# Altium footprint library MILL-MAX_897-43-005-00-100001.PcbLib: 1 footprints
Each footprint in its own frame and in the unit in brackets; x right, y up, seen from the top. Pads: shape width x height; smd on the part's side, far side on the other; paste and mask are expansions set on the pad; w line width, h text height; cw(c..) or ccw(c..) is an arc to the next point about the centre after c.
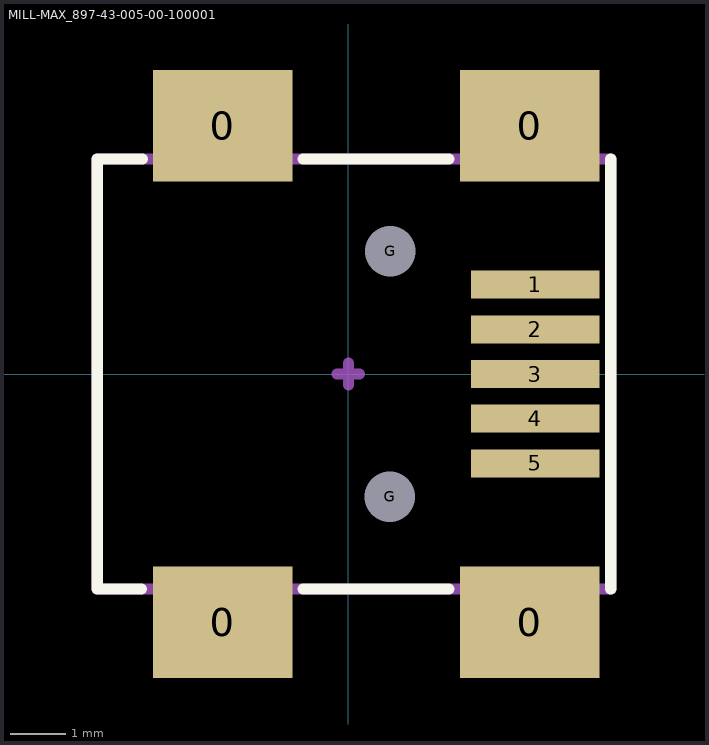
[diagram p0: the footprint, top view; thin cyan lines are the x and y axes]

## MILL-MAX_897-43-005-00-100001 [mm] "USB-MINI-B  SMD Connector"
height 3.95
pads (11):
  rect 2.5x2 smd: 0(-2.25,-4.45) 0(-2.25,4.45) 0(3.25,-4.45) 0(3.25,4.45)
  rect 2.3x0.5 smd: 1(3.35,1.6) 2(3.35,0.8) 3(3.35,0) 4(3.35,-0.8) 5(3.35,-1.6)
  round 0.35 hole 0.9 unplated: G(0.74,-2.2) G(0.75,2.2)
Top Overlay:
  lines w0.2: -3.708,-3.85 -4.5,-3.85 -4.5,3.85 -3.687,3.85 ; -0.813,-3.85 1.803,-3.85 ; -0.813,3.85 1.803,3.85 ; 4.7,-3.85 4.7,3.85
Mechanical 15:
  lines w0.2: -0.2,0 0.2,0 ; 0,-0.2 0,0.2 ; -4.5,-3.85 4.7,-3.85 4.7,3.85 -4.5,3.85 -4.5,-3.85
  text "PCB EDGE" at -3.4,-2.277 h1
3D body: height 4.45, standoff -0.5, extent -5.15,-5.35 4.05,5.35